# Altium integrated library Arduino_Shield_Project_SUMM23.IntLib: 9 symbols
Pins are listed as number, name and electrical type; pins without a type are passive.

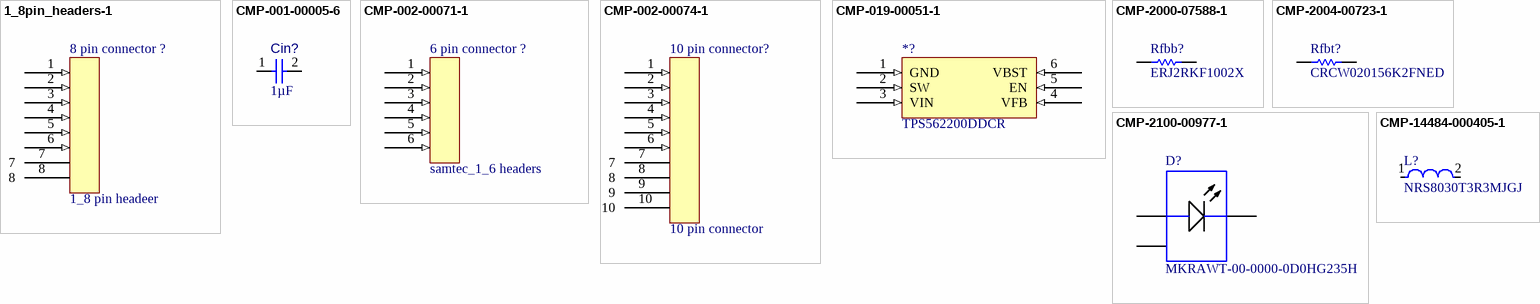
[diagram p0: symbols 1_8pin_headers-1 to CMP-14484-000405-1]

## 1_8pin_headers-1
designator 8 pin connector ?, comment 1_8 pin headeer
Board Connector, 8 Contact(s), 1 Row(s), Female, 0.049 inch Pitch, Crimp Terminal, Locking, Receptacle; Manufacturer: Molex; Manufacturer Part Number: 51021-0800; Mating Contact Row Spacing: 0.118inch; Contact Style: SQ PIN-SKT; PCB Contact Pattern: RECTANGULAR; Dielectric Withstanding Voltage (AC): 1.5kV; Mixed Contacts: No; Body Depth: 0.156inch; Durability: 25Cycles; Reliability: COMMERCIAL; Body Length: 0.463inch; Number of Rows Loaded: 1; Insulation Resistance: 100MR; PCB Contact Row Spacing: 4.6228mm; Reference Standard: UL; Rated Current (Signal): 5A; Additional Feature: ROHS COMPLIANT; Number Of PCB Rows: 2; Number of Contacts: 8; Option: General Purpose; Polarization Key: POLARIZED HOUSING; Contact Resistance: 20mR; Body Breadth: 0.126inch; Mating Information: MULTIPLE MATING PARTS AVAILABLE; Board Mounting Option: PEG; Flammability Rating: UL94 V-0; Mating Contact Pitch: 0.049inch; Termination: Crimp; RoHS Compliant: Yes; Min Operating Temperature: -40°C; MIL Conformance: No; Max Operating Temperature: 85°C; Insulation Color: Black; Mount: Board; Contact Finish - Mating: NOT SPECIFIED; IEC Conformance: No; Body/Shell Style: RECEPTACLE; Mounting Style: STRAIGHT; JESD-609 Code: e3; Contact Gender: Female; Terminal Pitch: 1.25mm; DIN Conformance: No; Reach SVHC Compliant: Yes; Filter Feature: No; Insulation Material: Polyester; Contact Finish - Termination: Tin (Sn); Contact Pattern: RECTANGULAR; Mounting Option 1: LOCKING; Connector Type: BOARD CONNECTOR; Number Of Connectors: 1; Contact Material: Copper Alloy; Component Type: Connectors
footprint 1_8_Pin headers-Footprint-1
pins: 1 (in), 2 (in), 3 (in), 4 (in), 5 (in), 6 (in), 7, 8

## CMP-001-00005-6
designator Cin?, comment value 1µF  (hidden comment: Capacitor 1 uF +/- 10% 25 V 0603)
Chip Capacitor, 1 uF, +/- 10%, 25 V, 0603 (1608 Metric); Manufacturer: Yageo; Manufacturer Part Number: CC0603KRX7R8BB105; Manufacturer: Murata; Manufacturer Part Number: GRM188R71E105KA12D; Capacitor Type: Ceramic; Voltage Rating: 25V; Pins: 2; Mounting Technology: SM; RoHS Compliant: True; Max Operating Temperature: 125°C; Case/Package: 0603; Min Operating Temperature: -55°C; Tolerance: 10%; Component Type: Capacitors
footprint CAPC1608X90X40LL10T20 (Chip Capacitor, 2-Leads, Body 1.70x0.90mm, IPC High Density)
footprint CAPC1608X90X40ML10T20 (Chip Capacitor, 2-Leads, Body 1.70x0.90mm, IPC Low Density)
footprint CAPC1608X90X40NL10T20 (Chip Capacitor, 2-Leads, Body 1.70x0.90mm, IPC Medium Density)
pins: 1, 2

## CMP-002-00071-1
designator 6 pin connector ?, comment samtec_1_6 headers
1 row 6 pin headers with 1.27mm radius for arduino shield; Component Type: Connectors
footprint samtec_1_6 headers-Footprint-1
pins: 1 (in), 2 (in), 3 (in), 4 (in), 5 (in), 6 (in)

## CMP-002-00074-1
designator 10 pin connector?, comment 10 pin connector
10pin connector; Manufacturer: Molex; Manufacturer Part Number: 53398-1071; Connector Type: BOARD CONNECTOR; RoHS Compliant: Yes; Min Operating Temperature: -40°C; Max Operating Temperature: 85°C; Component Type: Connectors
footprint 10 pin connector-Footprint-1
simulation model 10 pin connector-Simulation-1
pins: 1 (in), 2 (in), 3 (in), 4 (in), 5 (in), 6 (in), 7, 8, 9, 10

## CMP-019-00051-1
designator *?, comment TPS562200DDCR
Switching Regulator, 2A, 650kHz Switching Freq-Max, PDSO6; Manufacturer: Texas Instruments; Control Technique: PULSE WIDTH MODULATION; Nominal Input Voltage: 12V; Switcher Configuration: BUCK; Package Body Material: Plastic; Max Input Voltage: 17V; Max Output Current: 4.3A; Min Input Voltage: 4.5V; Number of Functions: 1; Moisture Sensitivity Level: 1; Width: 1.6mm; Min Operating Temperature: -40°C; JESD-609 Code: e3; Temperature Grade: INDUSTRIAL; Package Code: TSSOP; Surface Mount: Yes; Max Operating Temperature: 85°C; Switching Frequency-Max: 650kHz; Height - Seated (Max): 1.1mm; Terminal Finish: Tin; Package Style: SMALL OUTLINE, THIN PROFILE, SHRINK PITCHMeter; Analog IC - Other Type: SWITCHING REGULATOR; Length: 2.9mm; Terminal Pitch: 0.95mm; Number of Pins: 6; JESD-30 Code: R-PDSO-G6; Reach SVHC Compliant: Yes; Peak Reflow Temperature (Cel): 260°C; RoHS Compliant: Yes; Terminal Position: DUAL; Package Shape: Rectangular; Terminal Form: Gull Wing; Manufacturer Part Number: TPS562200DDCR; Component Type: Power Supply
footprint SOT95P245X110-6N (SOT23, 6-Leads, Body 2.90x2.45mm, Pitch 0.95mm, IPC Medium Density)
pins: 1 GND (in), 2 SW (in), 3 VIN (in), 4 VFB (in), 5 EN (in), 6 VBST (in)

## CMP-2000-07588-1
designator Rfbb?, comment ERJ2RKF1002X
Chip Resistor, 10 KOhm, +/- 1%, 0.1 W, -55 to 155 degC, 0402 (1005 Metric), RoHS, Tape and Reel; Manufacturer: Panasonic; Manufacturer Part Number: ERJ-2RKF1002X; Power Rating: 100mW; Voltage Rating: 50V; Resistance: 10KOhm; Case\/Package: 0402; Temperature Coefficient: 100ppm\/degreesC; RoHSCompliant: True; Lead Free: LeadFree; Package Quantity: 1; Contact Plating: Tin; Length: 1mm; Radiation Hardening: No; REACH SVHC: NoSVHC; Max Operating Temperature: 155degC; Depth: 0.5mm; Case Code (Imperial): 0402; Military Standard: Not; Package Description: 2-Pin Surface Mount Device, Body 1 x 0.5 mm; Termination: SMD/SMT; Case Code (Metric): 1005; Height: 0.35mm; Packaging: TapeandReel; Voltage Rating (DC): 50V; Package Reference: 402; Number of Pins: 2; Tolerance: 1%; Mounting Technology: SurfaceMount; Width: 0.02inch; Mount: SurfaceMount; Datasheet URL: https://industrial.panasonic.com/cdbs/www-data/pdf/RDA0000/AOA0000C304.pdf; Composition: ThickFilm; Datasheet Version: 02/2017; Manufacturer URL: http://www.panasonic.com/; Max Power Dissipation: 100mW; Number of Terminations: 2; Min Operating Temperature: -55degC
footprint RESC1005X40X25LL05T05 (Chip Resistor, 2-Leads, Body 1.05x0.55mm, IPC High Density)
footprint RESC1005X40X25ML05T05 (Chip Resistor, 2-Leads, Body 1.05x0.55mm, IPC Low Density)
footprint RESC1005X40X25NL05T05 (Chip Resistor, 2-Leads, Body 1.05x0.55mm, IPC Medium Density)
pins: 1, 2

## CMP-2004-00723-1
designator Rfbt?, comment CRCW020156K2FNED
Manufacturer: Vishay Dale; Manufacturer: Vishay; Part Number: CRCW020156K2FNED; Manufacturer Part Number: CRCW020156K2FNED
footprint RESC0603X28X15NL05T05 (Chip Resistor, 2-Leads, Body 0.60x0.30mm, IPC Medium Density)
footprint RESC0603X28X15ML05T05 (Chip Resistor, 2-Leads, Body 0.60x0.30mm, IPC Low Density)
footprint RESC0603X28X15LL05T05 (Chip Resistor, 2-Leads, Body 0.60x0.30mm, IPC High Density)
pins: 1, 2
1 alternate drawing of the same symbol

## CMP-2100-00977-1
designator D?, comment MKRAWT-00-0000-0D0HG235H
LED, White, 12 V, 2-Pin SMD, RoHS, Tape and Reel; Manufacturer: Cree; Manufacturer Part Number: MKRAWT-00-0000-0D0HG235H
footprint CREE-MK-R-2_V (SMD, 2-Leads, Body 7x7mm, Thermal Pad 3.9x6.76mm)
pins: 1 A, 2 K, 3 EP

## CMP-14484-000405-1
designator L?, comment NRS8030T3R3MJGJ
Inductor Power Shielded Wirewound 3.3uH 20% 100KHz Ferrite 4.2A 24.7mΩ DCR T/R; Manufacturer: Taiyo Yuden; Current Rating: 4.3A; DC Resistance (DCR): 19mR; Self Resonant Frequency: 50MHz; Height: 3mm; Lead Free: Lead Free; Saturation Current: 4.2A; Termination: SMD/SMT; RoHS Compliant: Yes; Resistor Type: Wirewound; RMS Current (Irms): 4.3A; Series: NRS; Halogen Free: Halogen Free; Shielding: Shielded; Length: 8mm; Max DC Current: 4.2A; Height - Seated (Max): 0.118inch; Radiation Hardening: No; Min Operating Temperature: -25°C; Number of Pins: 2; Core Material: Ferrite; Inductance: 3.3uH; Package Quantity: 1000; REACH SVHC: No SVHC; Test Frequency: 100kHz; Tolerance: 20%; Case/Package: Nonstandard; Inductance Tolerance: 20%; Width: 0.315inch; Mount: Surface Mount; Depth: 8.2mm; Lead Pitch: 5.6mm; Packaging: Tape and Reel; Max Operating Temperature: 125°C; Manufacturer Part Number: NRS8030T3R3MJGJ
footprint FP-NRS8030-MFG
pins: 1, 2